# Altium footprint library CN-25-P254-F-RA.PcbLib: 1 footprints
Each footprint in its own frame and in the unit in brackets; x right, y up, seen from the top. Pads: shape width x height; smd on the part's side, far side on the other; paste and mask are expansions set on the pad; w line width, h text height; cw(c..) or ccw(c..) is an arc to the next point about the centre after c.
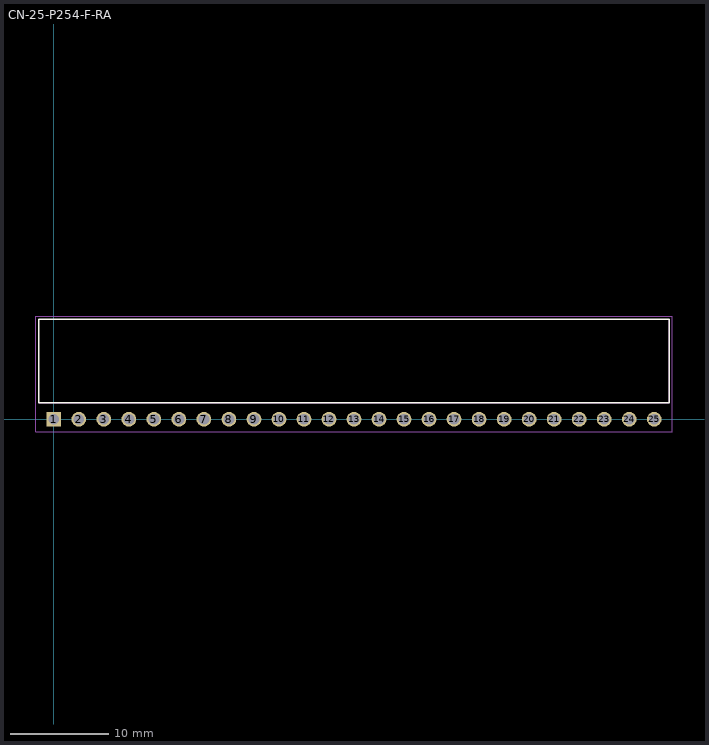
[diagram p0: the footprint, top view; thin cyan lines are the x and y axes]

## CN-25-P254-F-RA [mm] "Connector; Socket, female, 25 Position,2.54mm pitch"
pads (25):
  rect 1.5x1.5 hole 1.1: 1(0,0)
  round 1.5 hole 1.1: 2(2.54,0) 3(5.08,0) 4(7.62,0) 5(10.16,0) 6(12.7,0) 7(15.24,0) 8(17.78,0) 9(20.32,0) 10(22.86,0) 11(25.4,0) 12(27.94,0) 13(30.48,0) 14(33.02,0) 15(35.56,0) 16(38.1,0) 17(40.64,0) 18(43.18,0) 19(45.72,0) 20(48.26,0) 21(50.8,0) 22(53.34,0) 23(55.88,0) 24(58.42,0) 25(60.96,0)
Top Overlay:
  lines w0.152: -1.524,1.651 -1.524,10.16 62.484,10.16 62.484,1.651 -1.524,1.651
Mechanical 13:
  lines w0.1: -1.524,1.651 62.484,1.651 62.484,10.16 -1.524,10.16 -1.524,1.651
Mechanical 15:
  lines w0.05: -1.824,-1.266 -1.824,10.46 62.784,10.46 62.784,-1.27 -1.82,-1.27 -1.824,-1.266
3D body: height 2.5, standoff -3.09, extent -1.52,-0.127 62.48,10.173